# Altium schematic symbol library Battery Clip.Schlib: 1 symbol
Pins are listed as number, name and electrical type; pins without a type are passive.

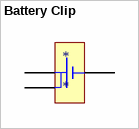
[diagram p0: symbol Battery Clip]

## Battery Clip
designator *
pins: 1 +, 2 +, 3 -